# EAGLE library part ARDUINO_OUTLINE_HEADERS (library 0_MyTempLIB)
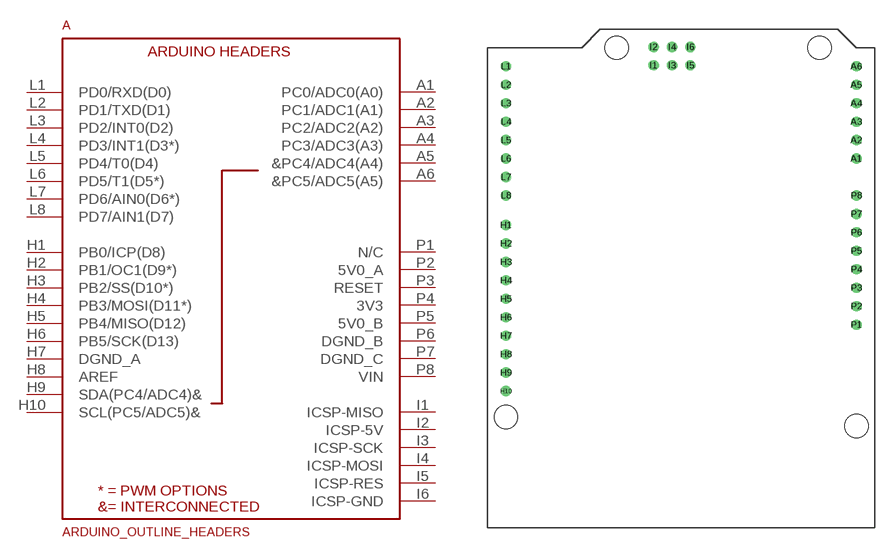
[diagram p4: symbol with the pads of ARDUINO_FULL_OUTLINE; footprint ARDUINO_FULL_OUTLINE]

Designator prefix A

## ARDUINO_OUTLINE_HEADERS  [ARDUINO_FULL_OUTLINE]
A1  PC0/ADC0(A0)
A2  PC1/ADC1(A1)
A3  PC2/ADC2(A2)
A4  PC3/ADC3(A3)
A5  &PC4/ADC4(A4)
A6  &PC5/ADC5(A5)
H1  PB0/ICP(D8)
H2  PB1/OC1(D9*)
H3  PB2/SS(D10*)
H4  PB3/MOSI(D11*)
H5  PB4/MISO(D12)
H6  PB5/SCK(D13)
H7  DGND_A
H8  AREF
H9  SDA(PC4/ADC4)&
H10  SCL(PC5/ADC5)&
I1  ICSP-MISO
I2  ICSP-5V
I3  ICSP-SCK
I4  ICSP-MOSI
I5  ICSP-RES
I6  ICSP-GND
L1  PD0/RXD(D0)
L2  PD1/TXD(D1)
L3  PD2/INT0(D2)
L4  PD3/INT1(D3*)
L5  PD4/T0(D4)
L6  PD5/T1(D5*)
L7  PD6/AIN0(D6*)
L8  PD7/AIN1(D7)
P1  N/C  nc
P2  5V0_A
P3  RESET
P4  3V3
P5  5V0_B
P6  DGND_B
P7  DGND_C
P8  VIN

## Footprint ARDUINO_FULL_OUTLINE (pad centres in mm)
drill 0.9: A1 50.8,50.8; A2 50.8,53.34; A3 50.8,55.88; A4 50.8,58.42; A5 50.8,60.96; A6 50.8,63.5; H1 2.54,41.656; H2 2.54,39.116; H3 2.54,36.576; H4 2.54,34.036; H5 2.54,31.496; H6 2.54,28.956; H7 2.54,26.416; H8 2.54,23.876; H9 2.54,21.336; H10 2.54,18.796; I1 22.86,63.627; I2 22.86,66.167; I3 25.4,63.627; I4 25.4,66.167; I5 27.94,63.627; I6 27.94,66.167; L1 2.54,63.5; L2 2.54,60.96; L3 2.54,58.42; L4 2.54,55.88; L5 2.54,53.34; L6 2.54,50.8; L7 2.54,48.26; L8 2.54,45.72; P1 50.8,27.94; P2 50.8,30.48; P3 50.8,33.02; P4 50.8,35.56; P5 50.8,38.1; P6 50.8,40.64; P7 50.8,43.18; P8 50.8,45.72
hole 3.2 at 17.779,66.04
hole 3.2 at 45.72,66.04
hole 3.2 at 2.542,15.242
hole 3.2 at 50.801,13.971